# Altium schematic symbol library R.SchLib: 1 symbol
Pins are listed as number, name and electrical type; pins without a type are passive.

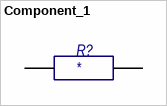
[diagram p0: symbol Component_1]

## Component_1
designator R?
footprint CAPC4520X200N
pins: 1, 2